# EAGLE library part XC6351A (library Bauteile)
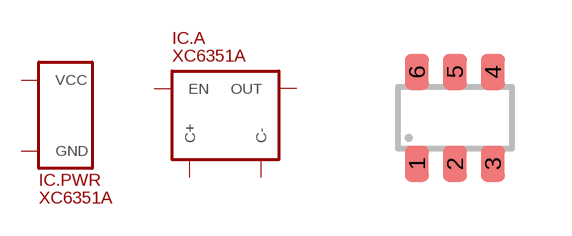
[diagram p46: symbol with the pads of SOT23-6; footprint SOT23-6]

Designator prefix IC; gates .PWR=SUPPLY_VCC/GND .A=XC6351A

## XC6351A  [SOT23-6]
1  .PWR:GND
2  .A:EN
3  .A:C+
4  .A:OUT
5  .PWR:VCC
6  .A:C-

## Footprint SOT23-6 (pad centres in mm)
SOT23-6 SOT26 SC59-6 SC74 TSOP-6 MO-178AB SMT6 SM6 Mini6 SOT457
smd 0.6 x 0.9: 1 -0.95,-1.15; 2 0,-1.15; 3 0.95,-1.15; 4 0.95,1.15; 5 0,1.15; 6 -0.95,1.15